# Altium footprint library Switch.PcbLib: 2 footprints
Each footprint in its own frame and in the unit in brackets; x right, y up, seen from the top. Pads: shape width x height; smd on the part's side, far side on the other; paste and mask are expansions set on the pad; w line width, h text height; cw(c..) or ccw(c..) is an arc to the next point about the centre after c.
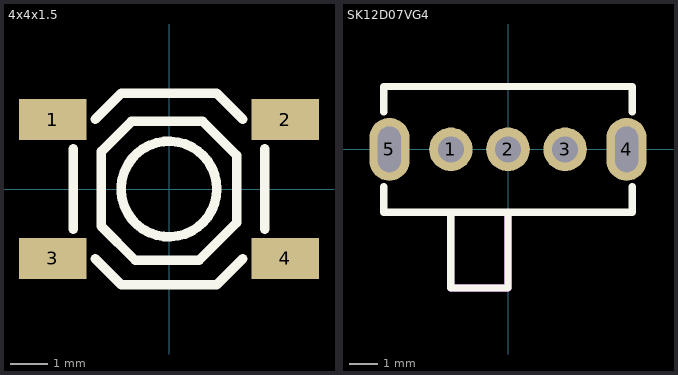
[diagram p0: the footprints below, top view; thin cyan lines are the x and y axes]

## 4x4x1.5 [mm]
pads (4):
  rect 1.8x1.1 smd paste+0 mask+0.051: 1(-3.1,1.85) 2(3.1,1.85) 3(-3.1,-1.85) 4(3.1,-1.85)
Top Overlay:
  circle w0.254: c0,0 r1.275
  lines w0.254: -2.55,-1.069 -2.55,1.069 ; -1.97,-1.856 -1.275,-2.55 1.275,-2.55 1.97,-1.856 ; -1.97,1.856 -1.275,2.55 1.275,2.55 1.97,1.856 ; 2.55,-1.069 2.55,1.069 ; -1.801,-0.998 -0.899,-1.9 0.8,-1.9 1.801,-0.899 1.801,0.899 0.899,1.801 -1.001,1.801 -1.801,1.001 -1.801,-0.998
Mechanical 15:
  lines w0.003: 1.524,0.127 1.524,0.127
3D body "BUTTON_SMD_4x4x1.5mm.stp": height 1.5, standoff 0, extent -3.2,-2.6 3.2,2.6

## SK12D07VG4 [mil]
pads (5):
  round 60 hole 36 paste-99999 mask+1.97: 1(-78.74,0) 2(0,0) 3(78.74,0)
  oval 55.12x86.61 hole 31.5 slot 62.99 at 90 deg paste-99999 mask+1.97: 4(163.39,0) 5(-163.39,0)
Top Overlay:
  lines w10: -171.26,86.61 171.26,86.61 171.26,51.55 ; -171.22,-51.56 -171.22,-86.57 171.3,-86.57 ; -171.22,51.56 -171.22,86.61 ; -78.97,-86.57 -78.97,-190.94 0,-190.94 0,-86.57 ; 171.26,-86.57 171.26,-51.55
Mechanical 15:
  region: 5,-190.94 5,-191.94 4.24,-193.78 2.84,-195.18 1,-195.94 0,-195.94 -78.74,-195.94 -79.73,-195.94 -81.57,-195.18 -82.97,-193.78 -83.74,-191.94 -83.74,-190.94 -83.74,-88.58 -83.74,-87.59 -82.97,-85.75 -81.57,-84.34 -79.73,-83.58 -78.74,-83.58 -77.74,-83.58 -75.9,-84.34 -74.5,-85.75 -73.74,-87.59 -73.74,-88.58 -73.74,-185.94 -5,-185.94 -5,-86.61 -5,-85.62 -4.23,-83.78 -2.83,-82.38 -0.99,-81.61 0,-81.61 1,-81.61 2.84,-82.38 4.24,-83.78 5,-85.62 5,-86.61
3D body "SK12D07VG4.step": height 187.87, standoff -107.4, extent -168.58,-190 170,83.23